# Altium schematic symbol library sch_IntegratedCircuit.SchLib: 28 symbols
Pins are listed as number, name and electrical type; pins without a type are passive.

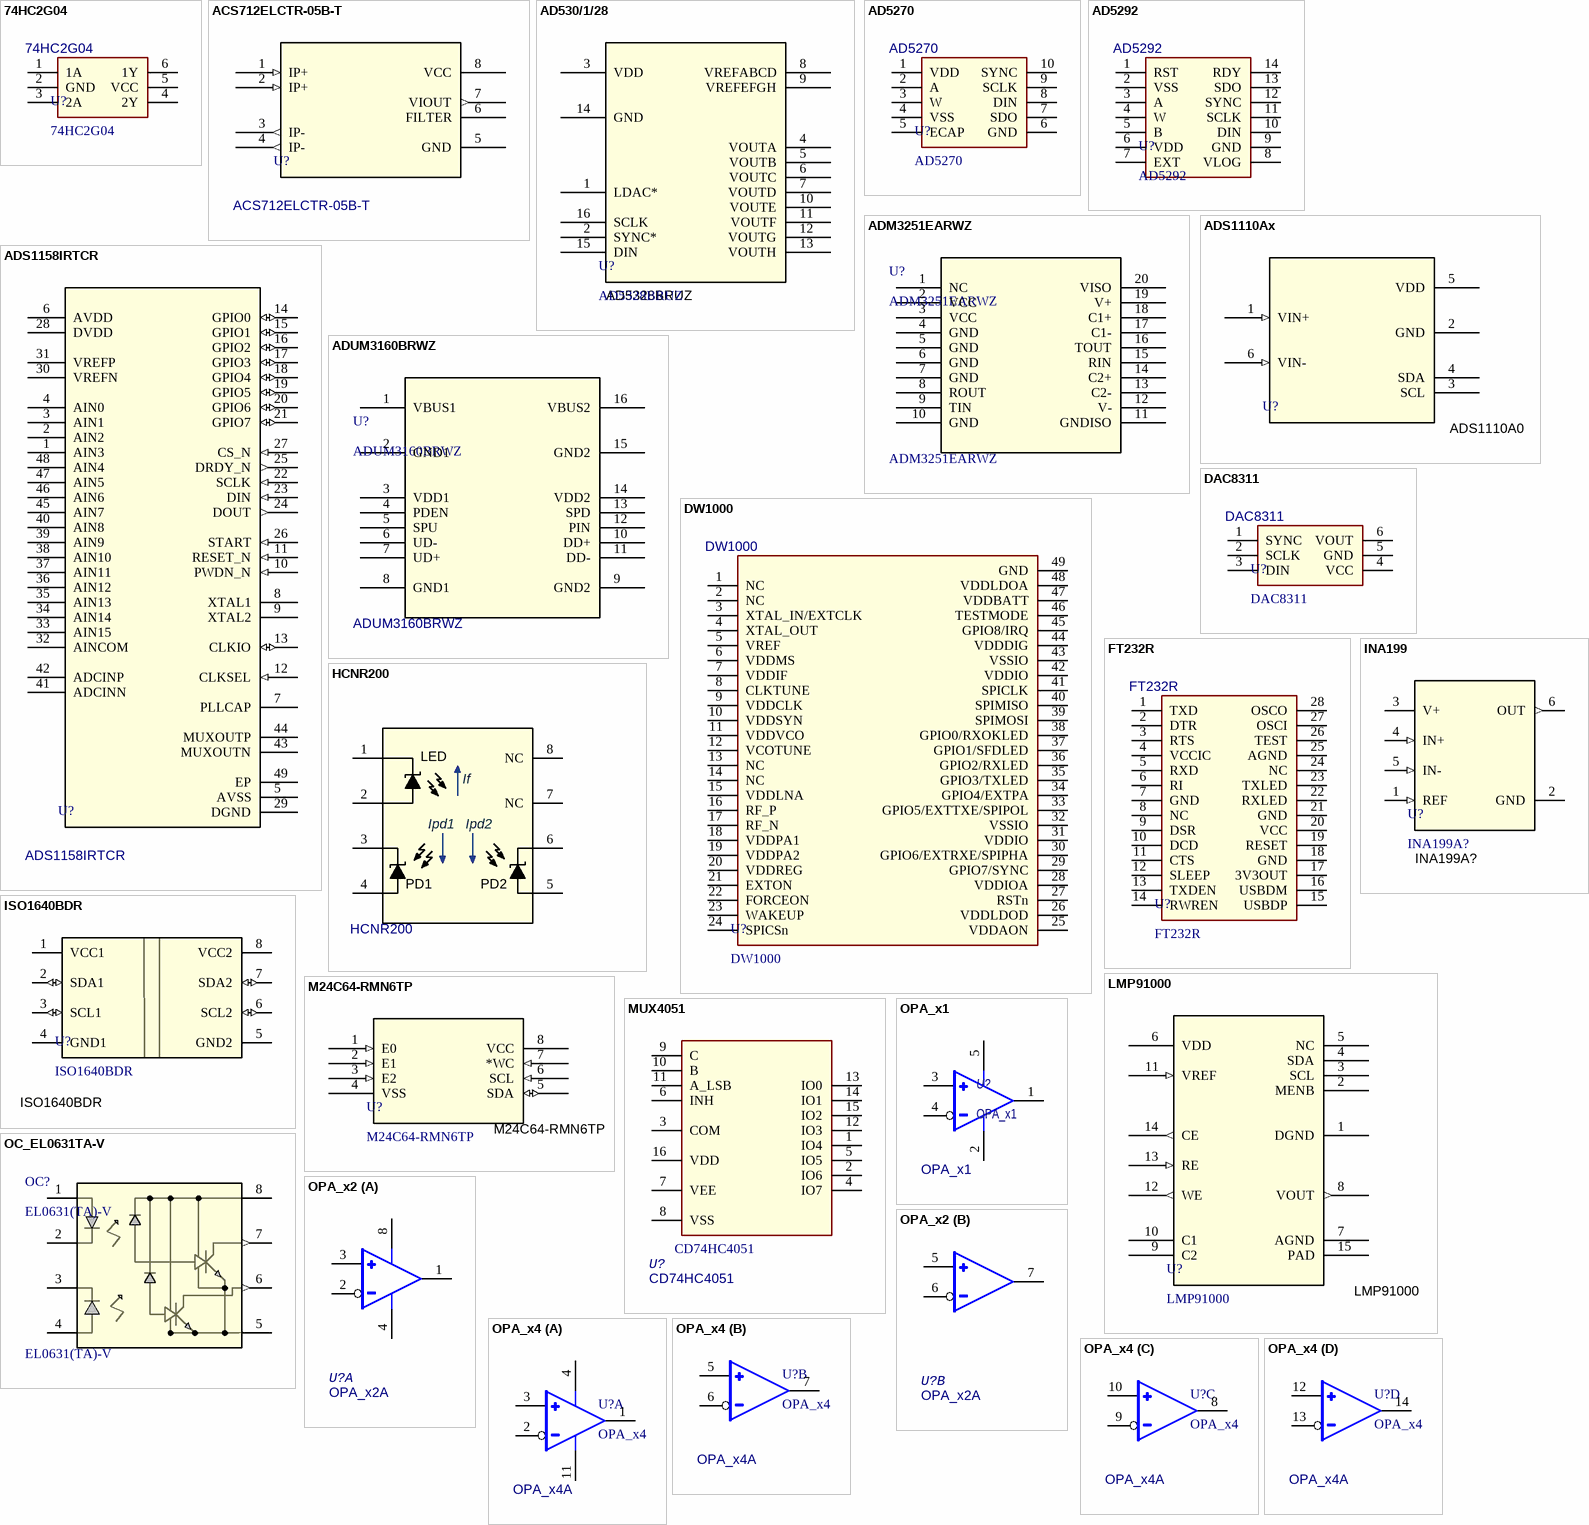
[diagram p0: symbols 74HC2G04 to OPA_x4]

## 74HC2G04
designator U?
74 Series; Package: SOT363-6; PartNumber: 74HC2G04
footprint SOT363-6_L2.0-W1.3-P0.65
pins: 1 1A, 2 GND, 3 2A, 4 2Y, 5 VCC, 6 1Y

## ACS712ELCTR-05B-T
designator U?
current sensor; Mfr_Name: Allegro Microsystems Inc.; Package: SOIC8; PartNumber: ACS712ELCTR-05B-T
footprint SOP-8_L5.0-W3.8-P1.27
pins: 1 IP+ (in), 2 IP+ (in), 3 IP- (out), 4 IP- (out), 5 GND (power), 6 FILTER, 7 VIOUT (out), 8 VCC (power)

## AD530/1/28
designator U?, comment AD5328BRUZ
ADI DAC; Mfr_Name: Analog Devices Inc; Package: TSSOP-16; PartNumber: AD5328BRUZ
footprint TSSOP-16_L5.0-W4.4-P0.65
pins: 1 LDAC*, 2 SYNC*, 3 VDD (power), 4 VOUTA, 5 VOUTB, 6 VOUTC, 7 VOUTD, 8 VREFABCD, 9 VREFEFGH, 10 VOUTE, 11 VOUTF, 12 VOUTG, 13 VOUTH, 14 GND, 15 DIN, 16 SCLK

## AD5270
designator U?
Digital Pot; PartNumber: AD5270
footprint TSSOP-10_L3.0-W3.0-P0.50 (TSSOP, 10PIN)
pins: 1 VDD, 2 A, 3 W, 4 VSS, 5 ECAP, 6 GND, 7 SDO, 8 DIN, 9 SCLK, 10 SYNC

## AD5292
designator U?
Digital Pot; PartNumber: AD5292
footprint TSSOP-14_L5.0-W4.4-P0.65
pins: 1 RST, 2 VSS, 3 A, 4 W, 5 B, 6 VDD, 7 EXT, 8 VLOG, 9 GND, 10 DIN, 11 SCLK, 12 SYNC, 13 SDO, 14 RDY

## ADM3251EARWZ
designator U?
RS232 Isolator; Mfr_Name: Analog Devices Inc; Package: RW-20-ADI; PartNumber: ADM3251EARWZ
footprint SOP-20_L12.8-W7.5-P1.27 (13*10.6*2.6（长宽高）)
pins: 1 NC, 2 VCC, 3 VCC, 4 GND, 5 GND, 6 GND, 7 GND, 8 ROUT, 9 TIN, 10 GND, 11 GNDISO, 12 V-, 13 C2-, 14 C2+, 15 RIN, 16 TOUT, 17 C1-, 18 C1+, 19 V+, 20 VISO

## ADS1110Ax
designator U?, comment ADS1110A0
ADC; Mfr_Name: Texas Instruments; Package: SOT-23-6; PartNumber: ADS1110A0
footprint SOT23-6_L2.9-W1.6-P0.95
pins: 1 VIN+ (in), 2 GND (power), 3 SCL, 4 SDA, 5 VDD (power), 6 VIN- (in)

## ADS1158IRTCR
designator U?
ADC; Mfr_Name: Texas Instruments; Package: RTC (S-PVQFN-N48); PartNumber: ADS1158IRTCR
footprint QFN-48_L7.0-W7.0-P0.5-EP
pins: 1 AIN3, 2 AIN2, 3 AIN1, 4 AIN0, 5 AVSS (power), 6 AVDD (power), 7 PLLCAP, 8 XTAL1, 9 XTAL2, 10 PWDN_N (in), 11 RESET_N (in), 12 CLKSEL (in), 13 CLKIO (io), 14 GPIO0 (io), 15 GPIO1 (io), 16 GPIO2 (io), 17 GPIO3 (io), 18 GPIO4 (io), 19 GPIO5 (io), 20 GPIO6 (io), 21 GPIO7 (io), 22 SCLK (in), 23 DIN (in), 24 DOUT (out), 25 DRDY_N (out), 26 START (in), 27 CS_N (in), 28 DVDD (power), 29 DGND (power), 30 VREFN, 31 VREFP, 32 AINCOM, 33 AIN15, 34 AIN14, 35 AIN13, 36 AIN12, 37 AIN11, 38 AIN10, 39 AIN9, 40 AIN8, 41 ADCINN, 42 ADCINP, 43 MUXOUTN, 44 MUXOUTP, 45 AIN7, 46 AIN6, 47 AIN5, 48 AIN4, 49 EP

## ADUM3160BRWZ
designator U?
USB隔离器; Mfr_Name: Analog Devices Inc; Package: RW_16_ADI; PartNumber: ADUM3160BRWZ
footprint SOP-16_L10.3-W7.5-P1.27 (10.3*10.3*2.6mm（长宽高）)
pins: 1 VBUS1, 2 GND1, 3 VDD1, 4 PDEN, 5 SPU, 6 UD-, 7 UD+, 8 GND1, 9 GND2, 10 DD+, 11 DD-, 12 PIN, 13 SPD, 14 VDD2, 15 GND2, 16 VBUS2

## DAC8311
designator U?
DAC; PartNumber: DAC8311
footprint SOT363-6_L2.0-W1.3-P0.65
pins: 1 SYNC, 2 SCLK, 3 DIN, 4 VCC, 5 GND, 6 VOUT

## DW1000
designator U?
UWB; Package: QFN48 P0.4; PartNumber: DW1000
footprint QFN-48_L6.0-W6.0-P0.4-EP
pins: 1 NC, 2 NC, 3 XTAL_IN/EXTCLK, 4 XTAL_OUT, 5 VREF, 6 VDDMS, 7 VDDIF, 8 CLKTUNE, 9 VDDCLK, 10 VDDSYN, 11 VDDVCO, 12 VCOTUNE, 13 NC, 14 NC, 15 VDDLNA, 16 RF_P, 17 RF_N, 18 VDDPA1, 19 VDDPA2, 20 VDDREG, 21 EXTON, 22 FORCEON, 23 WAKEUP, 24 SPICSn, 25 VDDAON, 26 VDDLDOD, 27 RSTn, 28 VDDIOA, 29 GPIO7/SYNC, 30 GPIO6/EXTRXE/SPIPHA, 31 VDDIO, 32 VSSIO, 33 GPIO5/EXTTXE/SPIPOL, 34 GPIO4/EXTPA, 35 GPIO3/TXLED, 36 GPIO2/RXLED, 37 GPIO1/SFDLED, 38 GPIO0/RXOKLED, 39 SPIMOSI, 40 SPIMISO, 41 SPICLK, 42 VDDIO, 43 VSSIO, 44 VDDDIG, 45 GPIO8/IRQ, 46 TESTMODE, 47 VDDBATT, 48 VDDLDOA, 49 GND

## FT232R
designator U?
USB2UART; PartNumber: FT232R
pins: 1 TXD, 2 DTR, 3 RTS, 4 VCCIC, 5 RXD, 6 RI, 7 GND, 8 NC, 9 DSR, 10 DCD, 11 CTS, 12 SLEEP, 13 TXDEN, 14 RWREN, 15 USBDP, 16 USBDM, 17 3V3OUT, 18 GND, 19 RESET, 20 VCC, 21 GND, 22 RXLED, 23 TXLED, 24 NC, 25 AGND, 26 TEST, 27 OSCI, 28 OSCO

## HCNR200
designator U?
高线性光耦; Mfr_Name: Mfr; Package: SOP-8-2.54mm; PartNumber: HCNR200
footprint SOP-8_L9.7-W6.5-P2.54 (6.5*9.66*3.5mm（长宽高）)
pins: 1, 2, 3, 4, 5, 6, 7 NC, 8 NC
text: LED; If; Ipd1; Ipd2; PD1; PD2

## INA199
designator U?, comment INA199A?
current-sense amplifier; Mfr_Name: Texas Instruments; Package: SOT-363(SC-70-6); PartNumber: INA199A?
footprint SOT363-6_L2.0-W1.3-P0.65
pins: 1 REF (in), 2 GND (power), 3 V+ (power), 4 IN+ (in), 5 IN- (in), 6 OUT (out)

## ISO1640BDR
designator U?
I2C Isolator; Mfr_Name: Texas Instruments; Package: SOIC-8; PartNumber: ISO1640BDR
footprint SOP-8_L5.0-W3.8-P1.27
pins: 1 VCC1 (power), 2 SDA1 (io), 3 SCL1 (io), 4 GND1 (power), 5 GND2 (power), 6 SCL2 (io), 7 SDA2 (io), 8 VCC2 (power)

## LMP91000
designator U?
EC Sensor AFE; Mfr_Name: Texas Instruments; Package: WSON-14; PartNumber: LMP91000
pins: 1 DGND (power), 2 MENB, 3 SCL, 4 SDA, 5 NC, 6 VDD (power), 7 AGND (power), 8 VOUT (out), 9 C2, 10 C1, 11 VREF (in), 12 WE (out), 13 RE (in), 14 CE (out), 15 PAD

## M24C64-RMN6TP
designator U?
EEPROM; Mfr_Name: STMicroelectronics; Package: SOIC8; PartNumber: M24C64-RMN6TP
footprint SOP-8_L5.0-W3.8-P1.27
pins: 1 E0 (in), 2 E1 (in), 3 E2 (in), 4 VSS (power), 5 SDA (io), 6 SCL (in), 7 *WC (in), 8 VCC (power)

## MUX4051
designator U?, comment CD74HC4051
模拟开关; Package: TSSOP-16; PartNumber: CD74HC4051
footprint TSSOP-16_L5.0-W4.4-P0.65
pins: 1 IO4, 2 IO6, 3 COM, 4 IO7, 5 IO5, 6 INH, 7 VEE, 8 VSS, 9 C, 10 B, 11 A_LSB, 12 IO3, 13 IO0, 14 IO1, 15 IO2, 16 VDD

## OC_EL0631TA-V
designator OC?, comment EL0631(TA)-V
Optical Coupler Logic Output x2; Mfr_Name: Everlight; Package: SOIC-8; PartNumber: EL0631(TA)-V
footprint SOP-8_L5.0-W3.8-P1.27-OPTO
pins: 1, 2, 3, 4, 5 (power), 6 (out), 7 (out), 8 (power)

## OPA_x1
designator U?
operational amplifier; Mfr_Name: Mfr?; Package: SOT23-5; PartNumber: OPA_x1
footprint SOT23-5_L2.9-W1.6-P0.95
pins: 1 OUT, 2 VS- (power), 3 IN+, 4 IN-, 5 VS+ (power)

## OPA_x2
designator U?  PartNumber: OPA_x2A  (hidden comment: OPA_x2)
operational amplifier; Mfr_Name: Mfr?; Package: SOIC8
footprint TSSOP-8_L3.0-W3.0-P0.65 (3.00×4.00×1.00 e=0.65mm)
footprint SOP-8_L5.0-W3.8-P1.27
part A pins: 1 OUT_A, 2 IN-_A, 3 IN+_A, 4 VS- (power), 8 VS+ (power)
part B pins: 5 IN+_B, 6 IN-_B, 7 OUT_B

## OPA_x4
designator U?  PartNumber: OPA_x4A
operational amplifier; Mfr_Name: Mfr?; Package: PkgRef?
footprint TSSOP-14_L5.0-W4.4-P0.65
part A pins: 1 OUT_A, 2 IN-_A, 3 IN+_A, 4 VS+ (power), 11 VS- (power)
part B pins: 5 IN+_B, 6 IN-_B, 7 OUT_B
part C pins: 8 OUT_C, 9 IN-_C, 10 IN+_C
part D pins: 12 IN+_D, 13 IN-_D, 14 OUT_D

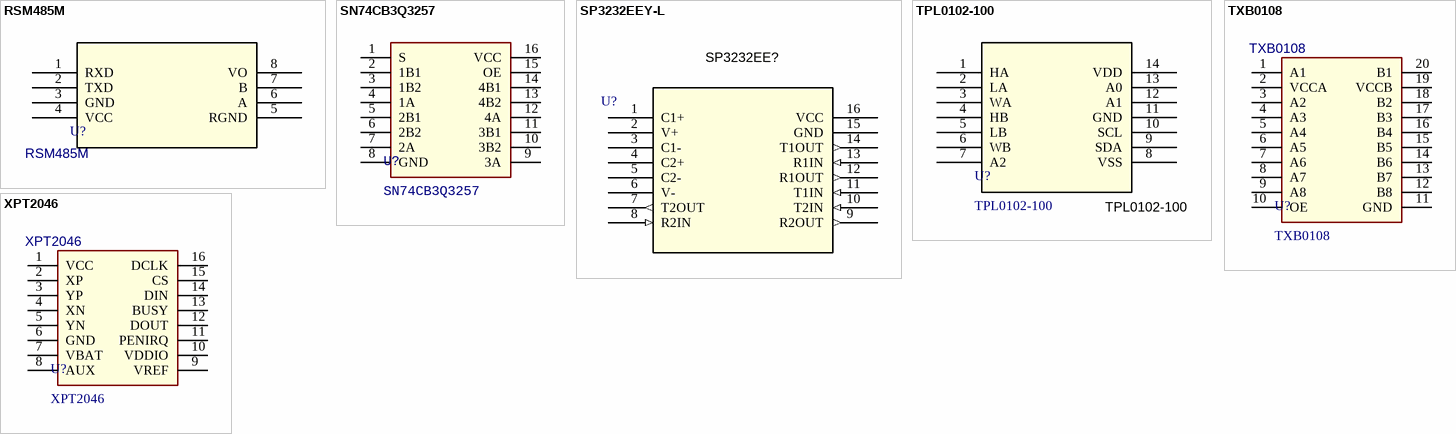
[diagram p1: symbols RSM485M to XPT2046]

## RSM485M
designator U?
RS485 Isolator; Mfr_Name: ZGL; Package: DIP-8; PartNumber: RSM485M
footprint COMM-TH_RSM485M
pins: 1 RXD, 2 TXD, 3 GND, 4 VCC, 5 RGND, 6 A, 7 B, 8 VO

## SN74CB3Q3257
designator U?
Bus Switch; Package: TSSOP16 P0.65; PartNumber: SN74CB3Q3257
footprint TSSOP-16_L5.0-W4.4-P0.65
pins: 1 S, 2 1B1, 3 1B2, 4 1A, 5 2B1, 6 2B2, 7 2A, 8 GND, 9 3A, 10 3B2, 11 3B1, 12 4A, 13 4B2, 14 4B1, 15 OE, 16 VCC

## SP3232EEY-L
designator U?, comment SP3232EE?
No Description Available; Mfr_Name: MaxLinear; Type: Interface; PartNumber: SP3232EE?
footprint TSSOP-16_L5.0-W4.4-P0.65
pins: 1 C1+, 2 V+ (power), 3 C1-, 4 C2+, 5 C2-, 6 V- (power), 7 T2OUT (out), 8 R2IN (in), 9 R2OUT (out), 10 T2IN (in), 11 T1IN (in), 12 R1OUT (out), 13 R1IN (in), 14 T1OUT (out), 15 GND (power), 16 VCC (power)

## TPL0102-100
designator U?
No Description Available; Mfr_Name: Texas Instruments; Package: TSSOP-14/QFN-14(2x2); PartNumber: TPL0102-100
footprint TSSOP-14_L5.0-W4.4-P0.65
pins: 1 HA, 2 LA, 3 WA, 4 HB, 5 LB, 6 WB, 7 A2, 8 VSS, 9 SDA, 10 SCL, 11 GND (power), 12 A1, 13 A0, 14 VDD (power)

## TXB0108
designator U?
Voltage Level Translator; PartNumber: TXB0108
footprint TSSOP-20_L6.5-W4.4-P0.65
pins: 1 A1, 2 VCCA, 3 A2, 4 A3, 5 A4, 6 A5, 7 A6, 8 A7, 9 A8, 10 OE, 11 GND, 12 B8, 13 B7, 14 B6, 15 B5, 16 B4, 17 B3, 18 B2, 19 VCCB, 20 B1

## XPT2046
designator U?
Touch; PartNumber: XPT2046
footprint TSSOP-16_L5.0-W4.4-P0.65
pins: 1 VCC, 2 XP, 3 YP, 4 XN, 5 YN, 6 GND, 7 VBAT, 8 AUX, 9 VREF, 10 VDDIO, 11 PENIRQ, 12 DOUT, 13 BUSY, 14 DIN, 15 CS, 16 DCLK